# Altium integrated library Analog Devices Operational Amplifiers.IntLib: 2102 symbols (part 53 of 70)
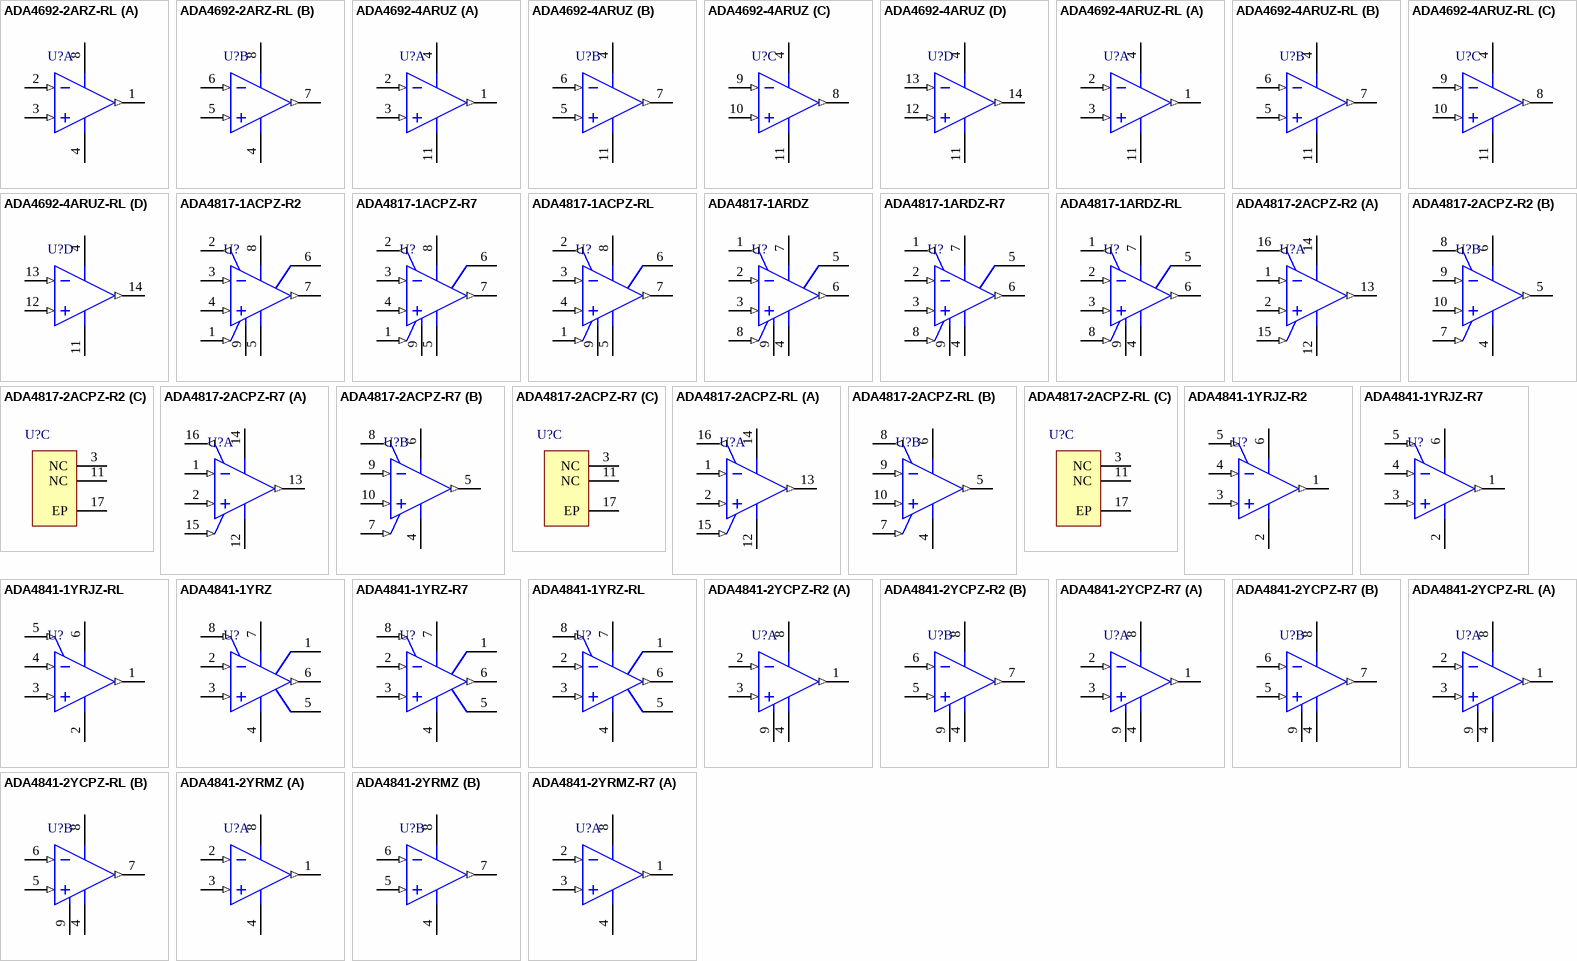
[diagram p166: symbols ADA4692-2ARZ-RL to ADA4841-2YRMZ-R7]

## ADA4841-2YCPZ-RL
designator U?
Double Channel Low Wide Band Noise Operational Amplifier, 80 MHz BW, 13 V/us SR, Industrial, 8-pin SON (CP-8-11), Reel; Generic Part Number: ADA4841-2; Manufacturer: Analog Devices; PartNumber: ADA4841-2YCPZ-RL; Amplifiers Per Package: 2; Input Bias Current: 3uA; Input Offset Voltage: 40uV; Iq/Amp: 1.5mA; Slew Rate: 13V/us; Small Signal Bandwidth: 80MHz; V Span Max: 12V; V Span Min: 2.7V; DatasheetVersion: Rev. E; PackageVersion: 01-24-2011-B; PackageReference: CP-8-11; PackageDescription: 8-Pin Lead Frame Chip Scale Package, Body 3 x 3 mm, Pitch 0.5 mm; Mounting Technology: Surface Mount; Code_JEDEC: MO-229-WEED; ComponentLink1Description: Manufacturer URL; ComponentLink1URL: http://www.analog.com/en/index.html; ComponentLink2Description: Datasheet; ComponentLink2URL: http://www.analog.com/static/imported-files/data_sheets/ADA4841-1_4841-2.pdf; ComponentLink3Description: Package Specification; ComponentLink3URL: http://www.analog.com/static/imported-files/packages/PKG_PDF/LFCSP(CP)/CP_8_11.pdf
footprint ADI-CP-8-11_N (SON, 8-Leads, Body 3x3mm, Pitch 0.5mm, Thermal Pad 2.34 x 1.60mm, IPC Medium Density)
footprint ADI-CP-8-11_L (SON, 8-Leads, Body 3x3mm, Pitch 0.5mm, Thermal Pad 2.34 x 1.60mm, IPC High Density)
footprint ADI-CP-8-11_M (SON, 8-Leads, Body 3x3mm, Pitch 0.5mm, Thermal Pad 2.34 x 1.60mm, IPC Low Density)
pins on every part: 4 -VS (power), 8 +VS (power), 9 EP (power)
part A pins: 1 OUT 1 (out), 2 -IN 1 (in), 3 +IN 1 (in)
part B pins: 5 +IN 2 (in), 6 -IN 2 (in), 7 OUT 2 (out)

## ADA4841-2YRMZ
designator U?
Double Channel Low Wide Band Noise Operational Amplifier, 80 MHz BW, 13 V/us SR, Industrial, 8-pin SOP (RM-8), Tube; Generic Part Number: ADA4841-2; Manufacturer: Analog Devices; PartNumber: ADA4841-2YRMZ; Amplifiers Per Package: 2; Input Bias Current: 3uA; Input Offset Voltage: 40uV; Iq/Amp: 1.5mA; Slew Rate: 13V/us; Small Signal Bandwidth: 80MHz; V Span Max: 12V; V Span Min: 2.7V; DatasheetVersion: Rev. E; PackageReference: RM-8; PackageDescription: 8-Pin Mini Small Outline Package, Body 3 x 3 mm, Pitch 0.65 mm; Supplier 1: Digi-Key; Supplier Part Number 1: ADA4841-2YRMZ-ND; Supplier 2: Farnell; Supplier Part Number 2: 1274194; Supplier 3: Newark; Supplier Part Number 3: 19M0647; Mounting Technology: Surface Mount; Code_JEDEC: MO-187-AA; ComponentLink1Description: Manufacturer URL; ComponentLink1URL: http://www.analog.com/en/index.html; ComponentLink2Description: Datasheet; ComponentLink2URL: http://www.analog.com/static/imported-files/data_sheets/ADA4841-1_4841-2.pdf; ComponentLink3Description: Package Specification; ComponentLink3URL: http://www.analog.com/static/imported-files/packages/PKG_PDF/MSOP%28RM%29/RM_8.pdf
footprint ADI-RM-8_N (SOP, 8-Leads, Body 3x3mm, Pitch 0.65mm, IPC Medium Density)
footprint ADI-RM-8_L (SOP, 8-Leads, Body 3x3mm, Pitch 0.65mm, IPC High Density)
footprint ADI-RM-8_M (SOP, 8-Leads, Body 3x3mm, Pitch 0.65mm, IPC Low Density)
pins on every part: 4 -VS (power), 8 +VS (power)
part A pins: 1 OUT 1 (out), 2 -IN 1 (in), 3 +IN 1 (in)
part B pins: 5 +IN 2 (in), 6 -IN 2 (in), 7 OUT 2 (out)

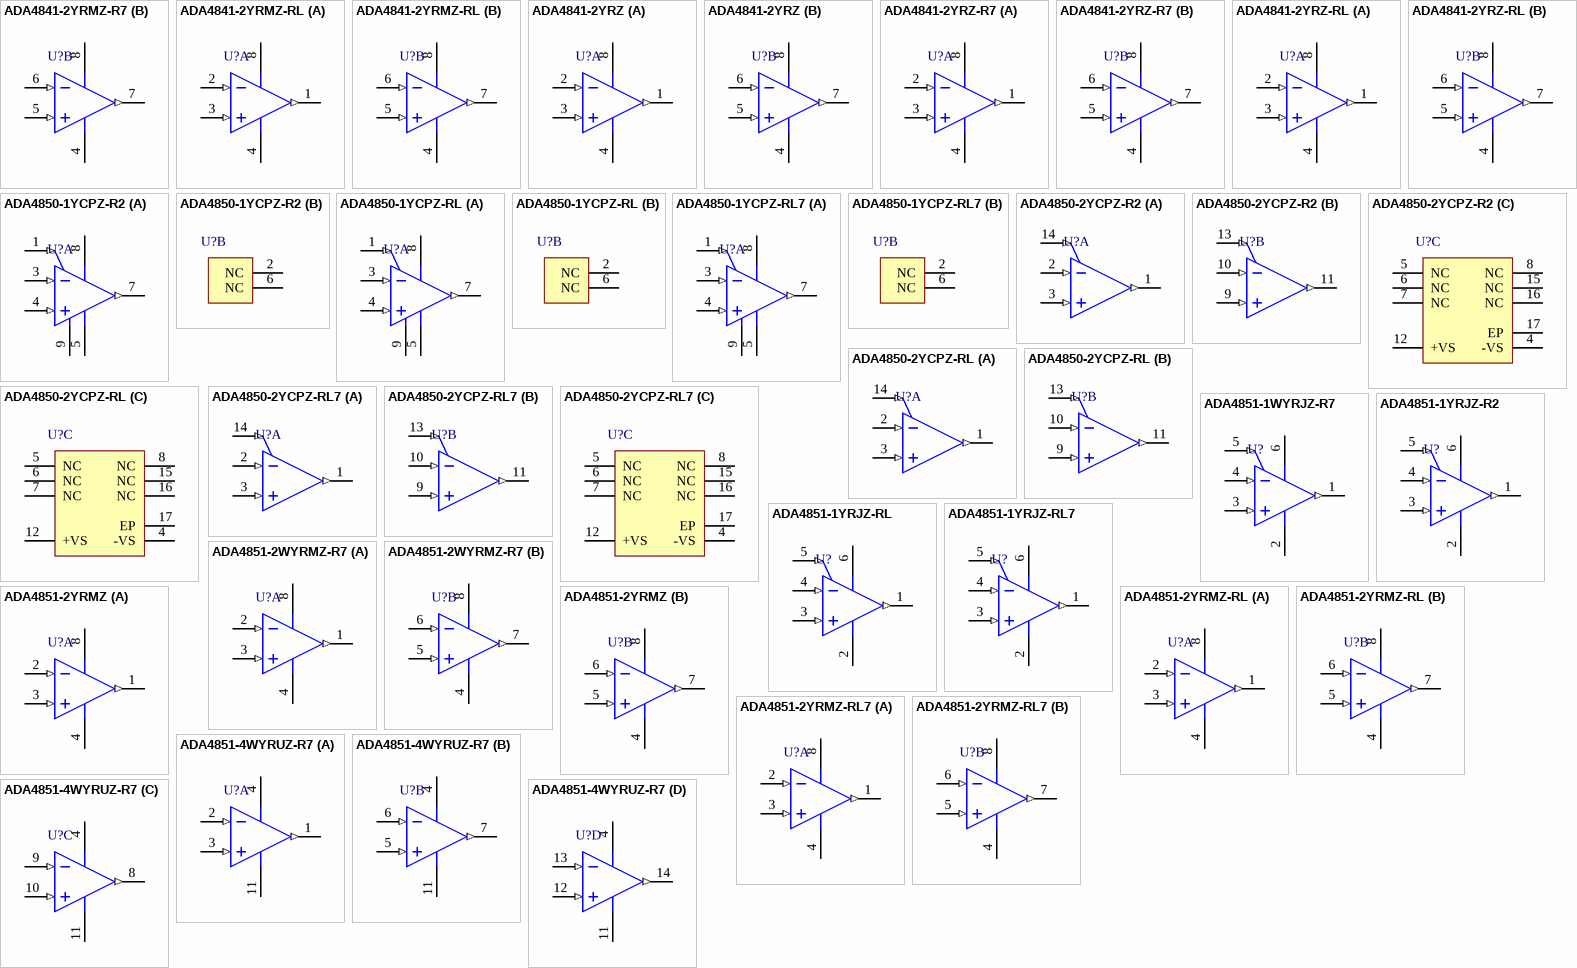
[diagram p83: symbols ADA4841-2YRMZ-R7 to ADA4851-4WYRUZ-R7]

## ADA4841-2YRMZ-R7
designator U?
Double Channel Low Wide Band Noise Operational Amplifier, 80 MHz BW, 13 V/us SR, Industrial, 8-pin SOP (RM-8), Reel; Generic Part Number: ADA4841-2; Manufacturer: Analog Devices; PartNumber: ADA4841-2YRMZ-R7; Amplifiers Per Package: 2; Input Bias Current: 3uA; Input Offset Voltage: 40uV; Iq/Amp: 1.5mA; Slew Rate: 13V/us; Small Signal Bandwidth: 80MHz; V Span Max: 12V; V Span Min: 2.7V; DatasheetVersion: Rev. E; PackageReference: RM-8; PackageDescription: 8-Pin Mini Small Outline Package, Body 3 x 3 mm, Pitch 0.65 mm; Supplier 1: Digi-Key; Supplier Part Number 1: ADA4841-2YRMZ-R7-ND; Supplier 2: Newark; Supplier Part Number 2: 12M7605; Mounting Technology: Surface Mount; Code_JEDEC: MO-187-AA; ComponentLink1Description: Manufacturer URL; ComponentLink1URL: http://www.analog.com/en/index.html; ComponentLink2Description: Datasheet; ComponentLink2URL: http://www.analog.com/static/imported-files/data_sheets/ADA4841-1_4841-2.pdf; ComponentLink3Description: Package Specification; ComponentLink3URL: http://www.analog.com/static/imported-files/packages/PKG_PDF/MSOP%28RM%29/RM_8.pdf
footprint ADI-RM-8_N (SOP, 8-Leads, Body 3x3mm, Pitch 0.65mm, IPC Medium Density)
footprint ADI-RM-8_L (SOP, 8-Leads, Body 3x3mm, Pitch 0.65mm, IPC High Density)
footprint ADI-RM-8_M (SOP, 8-Leads, Body 3x3mm, Pitch 0.65mm, IPC Low Density)
pins on every part: 4 -VS (power), 8 +VS (power)
part A pins: 1 OUT 1 (out), 2 -IN 1 (in), 3 +IN 1 (in)
part B pins: 5 +IN 2 (in), 6 -IN 2 (in), 7 OUT 2 (out)

## ADA4841-2YRMZ-RL
designator U?
Double Channel Low Wide Band Noise Operational Amplifier, 80 MHz BW, 13 V/us SR, Industrial, 8-pin SOP (RM-8), Reel; Generic Part Number: ADA4841-2; Manufacturer: Analog Devices; PartNumber: ADA4841-2YRMZ-RL; Amplifiers Per Package: 2; Input Bias Current: 3uA; Input Offset Voltage: 40uV; Iq/Amp: 1.5mA; Slew Rate: 13V/us; Small Signal Bandwidth: 80MHz; V Span Max: 12V; V Span Min: 2.7V; DatasheetVersion: Rev. E; PackageReference: RM-8; PackageDescription: 8-Pin Mini Small Outline Package, Body 3 x 3 mm, Pitch 0.65 mm; Supplier 1: Digi-Key; Supplier Part Number 1: ADA4841-2YRMZ-RL-ND; Supplier 2: Newark; Supplier Part Number 2: 12M7604; Mounting Technology: Surface Mount; Code_JEDEC: MO-187-AA; ComponentLink1Description: Manufacturer URL; ComponentLink1URL: http://www.analog.com/en/index.html; ComponentLink2Description: Datasheet; ComponentLink2URL: http://www.analog.com/static/imported-files/data_sheets/ADA4841-1_4841-2.pdf; ComponentLink3Description: Package Specification; ComponentLink3URL: http://www.analog.com/static/imported-files/packages/PKG_PDF/MSOP%28RM%29/RM_8.pdf
footprint ADI-RM-8_N (SOP, 8-Leads, Body 3x3mm, Pitch 0.65mm, IPC Medium Density)
footprint ADI-RM-8_L (SOP, 8-Leads, Body 3x3mm, Pitch 0.65mm, IPC High Density)
footprint ADI-RM-8_M (SOP, 8-Leads, Body 3x3mm, Pitch 0.65mm, IPC Low Density)
pins on every part: 4 -VS (power), 8 +VS (power)
part A pins: 1 OUT 1 (out), 2 -IN 1 (in), 3 +IN 1 (in)
part B pins: 5 +IN 2 (in), 6 -IN 2 (in), 7 OUT 2 (out)

## ADA4841-2YRZ
designator U?
Double Channel Low Wide Band Noise Operational Amplifier, 80 MHz BW, 13 V/us SR, Industrial, 8-pin SOIC (R-8), Tube; Generic Part Number: ADA4841-2; Manufacturer: Analog Devices; PartNumber: ADA4841-2YRZ; Amplifiers Per Package: 2; Input Bias Current: 3uA; Input Offset Voltage: 40uV; Iq/Amp: 1.5mA; Slew Rate: 13V/us; Small Signal Bandwidth: 80MHz; V Span Max: 12V; V Span Min: 2.7V; DatasheetVersion: Rev. E; PackageVersion: 060506-A; PackageReference: R-8; PackageDescription: 8-Pin Standard Small Outline Package, Body 3.9 x 4.9 mm, Pitch 1.27 mm; Supplier 1: Digi-Key; Supplier Part Number 1: ADA4841-2YRZ-ND; Supplier 2: Farnell; Supplier Part Number 2: 1274192; Supplier 3: Newark; Supplier Part Number 3: 19M0648; Mounting Technology: Surface Mount; Code_JEDEC: MS-012-AA; ComponentLink1Description: Manufacturer URL; ComponentLink1URL: http://www.analog.com/en/index.html; ComponentLink2Description: Datasheet; ComponentLink2URL: http://www.analog.com/static/imported-files/data_sheets/ADA4841-1_4841-2.pdf; ComponentLink3Description: Package Specification; ComponentLink3URL: http://www.analog.com/static/imported-files/packages/PKG_PDF/SOIC_Narrow%20(R)/R_8.pdf
footprint ADI-R-8_N (SOIC, 8-Leads, Body 4.9x3.9mm, Pitch 1.27mm, IPC Medium Density)
footprint ADI-R-8_L (SOIC, 8-Leads, Body 4.9x3.9mm, Pitch 1.27mm, IPC High Density)
footprint ADI-R-8_M (SOIC, 8-Leads, Body 4.9x3.9mm, Pitch 1.27mm, IPC Low Density)
pins on every part: 4 -VS (power), 8 +VS (power)
part A pins: 1 OUT 1 (out), 2 -IN 1 (in), 3 +IN 1 (in)
part B pins: 5 +IN 2 (in), 6 -IN 2 (in), 7 OUT 2 (out)

## ADA4841-2YRZ-R7
designator U?
Double Channel Low Wide Band Noise Operational Amplifier, 80 MHz BW, 13 V/us SR, Industrial, 8-pin SOIC (R-8), Reel; Generic Part Number: ADA4841-2; Manufacturer: Analog Devices; PartNumber: ADA4841-2YRZ-R7; Amplifiers Per Package: 2; Input Bias Current: 3uA; Input Offset Voltage: 40uV; Iq/Amp: 1.5mA; Slew Rate: 13V/us; Small Signal Bandwidth: 80MHz; V Span Max: 12V; V Span Min: 2.7V; DatasheetVersion: Rev. E; PackageVersion: 060506-A; PackageReference: R-8; PackageDescription: 8-Pin Standard Small Outline Package, Body 3.9 x 4.9 mm, Pitch 1.27 mm; Supplier 1: Digi-Key; Supplier Part Number 1: ADA4841-2YRZ-R7TR-ND; Supplier 2: Digi-Key; Supplier Part Number 2: ADA4841-2YRZ-R7CT-ND; Supplier 3: Digi-Key; Supplier Part Number 3: ADA4841-2YRZ-R7DKR-ND; Mounting Technology: Surface Mount; Code_JEDEC: MS-012-AA; ComponentLink1Description: Manufacturer URL; ComponentLink1URL: http://www.analog.com/en/index.html; ComponentLink2Description: Datasheet; ComponentLink2URL: http://www.analog.com/static/imported-files/data_sheets/ADA4841-1_4841-2.pdf; ComponentLink3Description: Package Specification; ComponentLink3URL: http://www.analog.com/static/imported-files/packages/PKG_PDF/SOIC_Narrow%20(R)/R_8.pdf
footprint ADI-R-8_N (SOIC, 8-Leads, Body 4.9x3.9mm, Pitch 1.27mm, IPC Medium Density)
footprint ADI-R-8_L (SOIC, 8-Leads, Body 4.9x3.9mm, Pitch 1.27mm, IPC High Density)
footprint ADI-R-8_M (SOIC, 8-Leads, Body 4.9x3.9mm, Pitch 1.27mm, IPC Low Density)
pins on every part: 4 -VS (power), 8 +VS (power)
part A pins: 1 OUT 1 (out), 2 -IN 1 (in), 3 +IN 1 (in)
part B pins: 5 +IN 2 (in), 6 -IN 2 (in), 7 OUT 2 (out)

## ADA4841-2YRZ-RL
designator U?
Double Channel Low Wide Band Noise Operational Amplifier, 80 MHz BW, 13 V/us SR, Industrial, 8-pin SOIC (R-8), Reel; Generic Part Number: ADA4841-2; Manufacturer: Analog Devices; PartNumber: ADA4841-2YRZ-RL; Amplifiers Per Package: 2; Input Bias Current: 3uA; Input Offset Voltage: 40uV; Iq/Amp: 1.5mA; Slew Rate: 13V/us; Small Signal Bandwidth: 80MHz; V Span Max: 12V; V Span Min: 2.7V; DatasheetVersion: Rev. E; PackageVersion: 060506-A; PackageReference: R-8; PackageDescription: 8-Pin Standard Small Outline Package, Body 3.9 x 4.9 mm, Pitch 1.27 mm; Supplier 1: Digi-Key; Supplier Part Number 1: ADA4841-2YRZ-RL-ND; Mounting Technology: Surface Mount; Code_JEDEC: MS-012-AA; ComponentLink1Description: Manufacturer URL; ComponentLink1URL: http://www.analog.com/en/index.html; ComponentLink2Description: Datasheet; ComponentLink2URL: http://www.analog.com/static/imported-files/data_sheets/ADA4841-1_4841-2.pdf; ComponentLink3Description: Package Specification; ComponentLink3URL: http://www.analog.com/static/imported-files/packages/PKG_PDF/SOIC_Narrow%20(R)/R_8.pdf
footprint ADI-R-8_N (SOIC, 8-Leads, Body 4.9x3.9mm, Pitch 1.27mm, IPC Medium Density)
footprint ADI-R-8_L (SOIC, 8-Leads, Body 4.9x3.9mm, Pitch 1.27mm, IPC High Density)
footprint ADI-R-8_M (SOIC, 8-Leads, Body 4.9x3.9mm, Pitch 1.27mm, IPC Low Density)
pins on every part: 4 -VS (power), 8 +VS (power)
part A pins: 1 OUT 1 (out), 2 -IN 1 (in), 3 +IN 1 (in)
part B pins: 5 +IN 2 (in), 6 -IN 2 (in), 7 OUT 2 (out)

## ADA4850-1YCPZ-R2
designator U?
Single Channel Ultra Low Power-Down Current Operational Amplifier, 175 MHz BW, 220 V/us SR, Industrial, 8-pin QFN (CP-8-2), Reel; Generic Part Number: ADA4850-1; Manufacturer: Analog Devices; PartNumber: ADA4850-1YCPZ-R2; Amplifiers Per Package: 1; Input Bias Current: 2.4uA; Input Offset Voltage: 600uV; Iq/Amp: 2.4mA; Small Signal Bandwidth: 175MHz; V Span Max: 6V; V Span Min: 2.7V; DatasheetVersion: Rev. C; PackageVersion: 061507-B; PackageReference: CP-8-2; PackageDescription: 8-Pin Lead Frame Chip Scale Package, Body 3 x 3 mm, Pitch 0.5 mm; Supplier 1: Digi-Key; Supplier Part Number 1: ADA4850-1YCPZ-R2CT-ND; Supplier 2: Digi-Key; Supplier Part Number 2: ADA4850-1YCPZ-R2DKR-ND; Slew Rate: 220V/us; Mounting Technology: Surface Mount; ComponentLink1Description: Manufacturer URL; ComponentLink1URL: http://www.analog.com/en/index.html; ComponentLink2Description: Datasheet; ComponentLink2URL: http://www.analog.com/static/imported-files/data_sheets/ADA4850-1_4850-2.pdf; ComponentLink3Description: Package Specification; ComponentLink3URL: http://www.analog.com/static/imported-files/packages/56953322593982CP_8_2.pdf
footprint ADI-CP-8-2_N (QFN, 8-Leads, Body 3x3mm, Pitch 0.5mm, Thermal Pad 1.45X1.74mm, IPC Medium Density)
footprint ADI-CP-8-2_L (QFN, 8-Leads, Body 3x3mm, Pitch 0.5mm, Thermal Pad 1.45X1.74mm, IPC High Density)
footprint ADI-CP-8-2_M (QFN, 8-Leads, Body 3x3mm, Pitch 0.5mm, Thermal Pad 1.45X1.74mm, IPC Low Density)
part A pins: 1 POWER DOWN (in), 3 -IN (in), 4 +IN (in), 5 -VS (power), 7 OUT (out), 8 +VS (power), 9 EP (power)
part B pins: 2 NC, 6 NC

## ADA4850-1YCPZ-RL
designator U?
Single Channel Ultra Low Power-Down Current Operational Amplifier, 175 MHz BW, 220 V/us SR, Industrial, 8-pin QFN (CP-8-2), Reel; Generic Part Number: ADA4850-1; Manufacturer: Analog Devices; PartNumber: ADA4850-1YCPZ-RL; Amplifiers Per Package: 1; Input Bias Current: 2.4uA; Input Offset Voltage: 600uV; Iq/Amp: 2.4mA; Small Signal Bandwidth: 175MHz; V Span Max: 6V; V Span Min: 2.7V; DatasheetVersion: Rev. C; PackageVersion: 061507-B; PackageReference: CP-8-2; PackageDescription: 8-Pin Lead Frame Chip Scale Package, Body 3 x 3 mm, Pitch 0.5 mm; Supplier 1: Digi-Key; Supplier Part Number 1: ADA4850-1YCPZ-RL-ND; Slew Rate: 220V/us; Mounting Technology: Surface Mount; ComponentLink1Description: Manufacturer URL; ComponentLink1URL: http://www.analog.com/en/index.html; ComponentLink2Description: Datasheet; ComponentLink2URL: http://www.analog.com/static/imported-files/data_sheets/ADA4850-1_4850-2.pdf; ComponentLink3Description: Package Specification; ComponentLink3URL: http://www.analog.com/static/imported-files/packages/56953322593982CP_8_2.pdf
footprint ADI-CP-8-2_N (QFN, 8-Leads, Body 3x3mm, Pitch 0.5mm, Thermal Pad 1.45X1.74mm, IPC Medium Density)
footprint ADI-CP-8-2_L (QFN, 8-Leads, Body 3x3mm, Pitch 0.5mm, Thermal Pad 1.45X1.74mm, IPC High Density)
footprint ADI-CP-8-2_M (QFN, 8-Leads, Body 3x3mm, Pitch 0.5mm, Thermal Pad 1.45X1.74mm, IPC Low Density)
part A pins: 1 POWER DOWN (in), 3 -IN (in), 4 +IN (in), 5 -VS (power), 7 OUT (out), 8 +VS (power), 9 EP (power)
part B pins: 2 NC, 6 NC

## ADA4850-1YCPZ-RL7
designator U?
Single Channel Ultra Low Power-Down Current Operational Amplifier, 175 MHz BW, 220 V/us SR, Industrial, 8-pin QFN (CP-8-2), Reel; Generic Part Number: ADA4850-1; Manufacturer: Analog Devices; PartNumber: ADA4850-1YCPZ-RL7; Amplifiers Per Package: 1; Input Bias Current: 2.4uA; Input Offset Voltage: 600uV; Iq/Amp: 2.4mA; Small Signal Bandwidth: 175MHz; V Span Max: 6V; V Span Min: 2.7V; DatasheetVersion: Rev. C; PackageVersion: 061507-B; PackageReference: CP-8-2; PackageDescription: 8-Pin Lead Frame Chip Scale Package, Body 3 x 3 mm, Pitch 0.5 mm; Supplier 1: Digi-Key; Supplier Part Number 1: ADA4850-1YCPZ-RL7-ND; Slew Rate: 220V/us; Mounting Technology: Surface Mount; ComponentLink1Description: Manufacturer URL; ComponentLink1URL: http://www.analog.com/en/index.html; ComponentLink2Description: Datasheet; ComponentLink2URL: http://www.analog.com/static/imported-files/data_sheets/ADA4850-1_4850-2.pdf; ComponentLink3Description: Package Specification; ComponentLink3URL: http://www.analog.com/static/imported-files/packages/56953322593982CP_8_2.pdf
footprint ADI-CP-8-2_N (QFN, 8-Leads, Body 3x3mm, Pitch 0.5mm, Thermal Pad 1.45X1.74mm, IPC Medium Density)
footprint ADI-CP-8-2_L (QFN, 8-Leads, Body 3x3mm, Pitch 0.5mm, Thermal Pad 1.45X1.74mm, IPC High Density)
footprint ADI-CP-8-2_M (QFN, 8-Leads, Body 3x3mm, Pitch 0.5mm, Thermal Pad 1.45X1.74mm, IPC Low Density)
part A pins: 1 POWER DOWN (in), 3 -IN (in), 4 +IN (in), 5 -VS (power), 7 OUT (out), 8 +VS (power), 9 EP (power)
part B pins: 2 NC, 6 NC

## ADA4850-2YCPZ-R2
designator U?
Double Channel Ultra Low Power-Down Current Operational Amplifier, 175 MHz BW, 220 V/us SR, Industrial, 16-pin QFN (CP-16-3), Reel; Generic Part Number: ADA4850-2; Manufacturer: Analog Devices; PartNumber: ADA4850-2YCPZ-R2; Amplifiers Per Package: 2; Input Bias Current: 2.4uA; Input Offset Voltage: 600uV; Iq/Amp: 2.4mA; Small Signal Bandwidth: 175MHz; V Span Max: 6V; V Span Min: 2.7V; DatasheetVersion: Rev. C; PackageReference: CP-16-3; PackageDescription: 16-Pin Lead Frame Chip Scale Package, Body 3 x 3 mm, Pitch 0.5 mm; Supplier 1: Digi-Key; Supplier Part Number 1: ADA4850-2YCPZ-R2CT-ND; Supplier 2: Digi-Key; Supplier Part Number 2: ADA4850-2YCPZ-R2DKR-ND; Supplier 3: Farnell; Supplier Part Number 3: 1078232; Supplier 4: Farnell; Supplier Part Number 4: 1078232RL; Slew Rate: 220V/us; Mounting Technology: Surface Mount; Code_JEDEC: MO-220-VEED-2; ComponentLink1Description: Manufacturer URL; ComponentLink1URL: http://www.analog.com/en/index.html; ComponentLink2Description: Datasheet; ComponentLink2URL: http://www.analog.com/static/imported-files/data_sheets/ADA4850-1_4850-2.pdf; ComponentLink3Description: Package Specification; ComponentLink3URL: http://www.analog.com/static/imported-files/packages/PKG_PDF/LFCSP(CP)/CP_16_3.pdf
footprint ADI-CP-16-3_N (QFN, 16-Leads, Body 3x3mm, Pitch 0.5mm, Thermal Pad 1.5x1.5mm, IPC Medium Density)
footprint ADI-CP-16-3_L (QFN, 16-Leads, Body 3x3mm, Pitch 0.5mm, Thermal Pad 1.5x1.5mm, IPC High Density)
footprint ADI-CP-16-3_M (QFN, 16-Leads, Body 3x3mm, Pitch 0.5mm, Thermal Pad 1.5x1.5mm, IPC Low Density)
part A pins: 1 VOUT 1 (out), 2 -IN 1 (in), 3 +IN 1 (in), 14 PD 1 (in)
part B pins: 9 +IN 2 (in), 10 -IN 2 (in), 11 VOUT 2 (out), 13 PD 2 (in)
part C pins: 4 -VS (power), 5 NC, 6 NC, 7 NC, 8 NC, 12 +VS (power), 15 NC, 16 NC, 17 EP (power)

## ADA4850-2YCPZ-RL
designator U?
Double Channel Ultra Low Power-Down Current Operational Amplifier, 175 MHz BW, 220 V/us SR, Industrial, 16-pin QFN (CP-16-3), Reel; Generic Part Number: ADA4850-2; Manufacturer: Analog Devices; PartNumber: ADA4850-2YCPZ-RL; Amplifiers Per Package: 2; Input Bias Current: 2.4uA; Input Offset Voltage: 600uV; Iq/Amp: 2.4mA; Small Signal Bandwidth: 175MHz; V Span Max: 6V; V Span Min: 2.7V; DatasheetVersion: Rev. C; PackageReference: CP-16-3; PackageDescription: 16-Pin Lead Frame Chip Scale Package, Body 3 x 3 mm, Pitch 0.5 mm; Supplier 1: Digi-Key; Supplier Part Number 1: ADA4850-2YCPZ-RL-ND; Slew Rate: 220V/us; Mounting Technology: Surface Mount; Code_JEDEC: MO-220-VEED-2; ComponentLink1Description: Manufacturer URL; ComponentLink1URL: http://www.analog.com/en/index.html; ComponentLink2Description: Datasheet; ComponentLink2URL: http://www.analog.com/static/imported-files/data_sheets/ADA4850-1_4850-2.pdf; ComponentLink3Description: Package Specification; ComponentLink3URL: http://www.analog.com/static/imported-files/packages/PKG_PDF/LFCSP(CP)/CP_16_3.pdf
footprint ADI-CP-16-3_N (QFN, 16-Leads, Body 3x3mm, Pitch 0.5mm, Thermal Pad 1.5x1.5mm, IPC Medium Density)
footprint ADI-CP-16-3_L (QFN, 16-Leads, Body 3x3mm, Pitch 0.5mm, Thermal Pad 1.5x1.5mm, IPC High Density)
footprint ADI-CP-16-3_M (QFN, 16-Leads, Body 3x3mm, Pitch 0.5mm, Thermal Pad 1.5x1.5mm, IPC Low Density)
part A pins: 1 VOUT 1 (out), 2 -IN 1 (in), 3 +IN 1 (in), 14 PD 1 (in)
part B pins: 9 +IN 2 (in), 10 -IN 2 (in), 11 VOUT 2 (out), 13 PD 2 (in)
part C pins: 4 -VS (power), 5 NC, 6 NC, 7 NC, 8 NC, 12 +VS (power), 15 NC, 16 NC, 17 EP (power)

## ADA4850-2YCPZ-RL7
designator U?
Double Channel Ultra Low Power-Down Current Operational Amplifier, 175 MHz BW, 220 V/us SR, Industrial, 16-pin QFN (CP-16-3), Reel; Generic Part Number: ADA4850-2; Manufacturer: Analog Devices; PartNumber: ADA4850-2YCPZ-RL7; Amplifiers Per Package: 2; Input Bias Current: 2.4uA; Input Offset Voltage: 600uV; Iq/Amp: 2.4mA; Small Signal Bandwidth: 175MHz; V Span Max: 6V; V Span Min: 2.7V; DatasheetVersion: Rev. C; PackageReference: CP-16-3; PackageDescription: 16-Pin Lead Frame Chip Scale Package, Body 3 x 3 mm, Pitch 0.5 mm; Supplier 1: Digi-Key; Supplier Part Number 1: ADA4850-2YCPZ-RL7-ND; Slew Rate: 220V/us; Mounting Technology: Surface Mount; Code_JEDEC: MO-220-VEED-2; ComponentLink1Description: Manufacturer URL; ComponentLink1URL: http://www.analog.com/en/index.html; ComponentLink2Description: Datasheet; ComponentLink2URL: http://www.analog.com/static/imported-files/data_sheets/ADA4850-1_4850-2.pdf; ComponentLink3Description: Package Specification; ComponentLink3URL: http://www.analog.com/static/imported-files/packages/PKG_PDF/LFCSP(CP)/CP_16_3.pdf
footprint ADI-CP-16-3_N (QFN, 16-Leads, Body 3x3mm, Pitch 0.5mm, Thermal Pad 1.5x1.5mm, IPC Medium Density)
footprint ADI-CP-16-3_L (QFN, 16-Leads, Body 3x3mm, Pitch 0.5mm, Thermal Pad 1.5x1.5mm, IPC High Density)
footprint ADI-CP-16-3_M (QFN, 16-Leads, Body 3x3mm, Pitch 0.5mm, Thermal Pad 1.5x1.5mm, IPC Low Density)
part A pins: 1 VOUT 1 (out), 2 -IN 1 (in), 3 +IN 1 (in), 14 PD 1 (in)
part B pins: 9 +IN 2 (in), 10 -IN 2 (in), 11 VOUT 2 (out), 13 PD 2 (in)
part C pins: 4 -VS (power), 5 NC, 6 NC, 7 NC, 8 NC, 12 +VS (power), 15 NC, 16 NC, 17 EP (power)

## ADA4851-1WYRJZ-R7
designator U?
Single Channel Low Power Operational Amplifier, 130 MHz BW, 375 V/us SR, Industrial, 6-pin SOT23 (RJ-6), Reel; Generic Part Number: ADA4851-1; Manufacturer: Analog Devices; PartNumber: ADA4851-1WYRJZ-R7; Amplifiers Per Package: 1; Automotive Qualified: Yes; Input Bias Current: 2.2uA; Input Offset Voltage: 600uV; Iq/Amp: 3.2mA; Small Signal Bandwidth: 130MHz; V Span Max: 12V; V Span Min: 2.7V; DatasheetVersion: Rev. J; PackageVersion: 121608-A; PackageReference: RJ-6; PackageDescription: 6-Pin Small Outline Transistor Package, Body 2.9 x 1.6 mm, Pitch 0.95 mm; Supplier 1: Digi-Key; Supplier Part Number 1: ADA4851-1WYRJZ-R7TR-ND; Supplier 2: Digi-Key; Supplier Part Number 2: ADA4851-1WYRJZ-R7CT-ND; Supplier 3: Digi-Key; Supplier Part Number 3: ADA4851-1WYRJZ-R7DKR-ND; Supplier 4: Newark; Supplier Part Number 4: 91R2556; Slew Rate: 375V/us; Mounting Technology: Surface Mount; Code_JEDEC: MO-178-AB; ComponentLink1Description: Manufacturer URL; ComponentLink1URL: http://www.analog.com/en/index.html; ComponentLink2Description: Datasheet; ComponentLink2URL: http://www.analog.com/static/imported-files/data_sheets/ADA4851-1_4851-2_4851-4.pdf; ComponentLink3Description: Package Specification; ComponentLink3URL: http://www.analog.com/static/imported-files/packages/PKG_PDF/SOT-23(RJ)/RJ_6.pdf; ComponentLink4Description: Reference Circuit; ComponentLink4URL: http://www.analog.com/en/all-operational-amplifiers-op-amps/operational-amplifiers-op-amps/ada4851-1/products/product.html#product-recommendations
footprint ADI-RJ-6_N (SOT23, 6-Leads, Body 2.9x1.6mm, Pitch 0.95mm, IPC Medium Density)
footprint ADI-RJ-6_L (SOT23, 6-Leads, Body 2.9x1.6mm, Pitch 0.95mm, IPC High Density)
footprint ADI-RJ-6_M (SOT23, 6-Leads, Body 2.9x1.6mm, Pitch 0.95mm, IPC Low Density)
pins: 1 VOUT (out), 2 -VS (power), 3 +IN (in), 4 -IN (in), 5 ~{POWER DOWN} (in), 6 +VS (power)

## ADA4851-1YRJZ-R2
designator U?
Single Channel Low Power Operational Amplifier, 130 MHz BW, 375 V/us SR, Industrial, 6-pin SOT23 (RJ-6), Reel; Generic Part Number: ADA4851-1; Manufacturer: Analog Devices; PartNumber: ADA4851-1YRJZ-R2; Amplifiers Per Package: 1; Automotive Qualified: Yes; Input Bias Current: 2.2uA; Input Offset Voltage: 600uV; Iq/Amp: 3.2mA; Small Signal Bandwidth: 130MHz; V Span Max: 12V; V Span Min: 2.7V; DatasheetVersion: Rev. J; PackageVersion: 121608-A; PackageReference: RJ-6; PackageDescription: 6-Pin Small Outline Transistor Package, Body 2.9 x 1.6 mm, Pitch 0.95 mm; Supplier 1: Digi-Key; Supplier Part Number 1: ADA4851-1YRJZ-R2CT-ND; Supplier 2: Digi-Key; Supplier Part Number 2: ADA4851-1YRJZ-R2DKR-ND; Supplier 3: Farnell; Supplier Part Number 3: 1078231; Supplier 4: Farnell; Supplier Part Number 4: 1078231RL; Supplier 5: Newark; Supplier Part Number 5: 19M8631; Slew Rate: 375V/us; Mounting Technology: Surface Mount; Code_JEDEC: MO-178-AB; ComponentLink1Description: Manufacturer URL; ComponentLink1URL: http://www.analog.com/en/index.html; ComponentLink2Description: Datasheet; ComponentLink2URL: http://www.analog.com/static/imported-files/data_sheets/ADA4851-1_4851-2_4851-4.pdf; ComponentLink3Description: Package Specification; ComponentLink3URL: http://www.analog.com/static/imported-files/packages/PKG_PDF/SOT-23(RJ)/RJ_6.pdf; ComponentLink4Description: Reference Circuit; ComponentLink4URL: http://www.analog.com/en/all-operational-amplifiers-op-amps/operational-amplifiers-op-amps/ada4851-1/products/product.html#product-recommendations
footprint ADI-RJ-6_N (SOT23, 6-Leads, Body 2.9x1.6mm, Pitch 0.95mm, IPC Medium Density)
footprint ADI-RJ-6_L (SOT23, 6-Leads, Body 2.9x1.6mm, Pitch 0.95mm, IPC High Density)
footprint ADI-RJ-6_M (SOT23, 6-Leads, Body 2.9x1.6mm, Pitch 0.95mm, IPC Low Density)
pins: 1 VOUT (out), 2 -VS (power), 3 +IN (in), 4 -IN (in), 5 ~{POWER DOWN} (in), 6 +VS (power)

## ADA4851-1YRJZ-RL
designator U?
Single Channel Low Power Operational Amplifier, 130 MHz BW, 375 V/us SR, Industrial, 6-pin SOT23 (RJ-6), Reel; Generic Part Number: ADA4851-1; Manufacturer: Analog Devices; PartNumber: ADA4851-1YRJZ-RL; Amplifiers Per Package: 1; Automotive Qualified: Yes; Input Bias Current: 2.2uA; Input Offset Voltage: 600uV; Iq/Amp: 3.2mA; Small Signal Bandwidth: 130MHz; V Span Max: 12V; V Span Min: 2.7V; DatasheetVersion: Rev. J; PackageVersion: 121608-A; PackageReference: RJ-6; PackageDescription: 6-Pin Small Outline Transistor Package, Body 2.9 x 1.6 mm, Pitch 0.95 mm; Supplier 1: Digi-Key; Supplier Part Number 1: ADA4851-1YRJZ-RL-ND; Supplier 2: Newark; Supplier Part Number 2: 59K0903; Slew Rate: 375V/us; Mounting Technology: Surface Mount; Code_JEDEC: MO-178-AB; ComponentLink1Description: Manufacturer URL; ComponentLink1URL: http://www.analog.com/en/index.html; ComponentLink2Description: Datasheet; ComponentLink2URL: http://www.analog.com/static/imported-files/data_sheets/ADA4851-1_4851-2_4851-4.pdf; ComponentLink3Description: Package Specification; ComponentLink3URL: http://www.analog.com/static/imported-files/packages/PKG_PDF/SOT-23(RJ)/RJ_6.pdf; ComponentLink4Description: Reference Circuit; ComponentLink4URL: http://www.analog.com/en/all-operational-amplifiers-op-amps/operational-amplifiers-op-amps/ada4851-1/products/product.html#product-recommendations
footprint ADI-RJ-6_N (SOT23, 6-Leads, Body 2.9x1.6mm, Pitch 0.95mm, IPC Medium Density)
footprint ADI-RJ-6_L (SOT23, 6-Leads, Body 2.9x1.6mm, Pitch 0.95mm, IPC High Density)
footprint ADI-RJ-6_M (SOT23, 6-Leads, Body 2.9x1.6mm, Pitch 0.95mm, IPC Low Density)
pins: 1 VOUT (out), 2 -VS (power), 3 +IN (in), 4 -IN (in), 5 ~{POWER DOWN} (in), 6 +VS (power)

## ADA4851-1YRJZ-RL7
designator U?
Single Channel Low Power Operational Amplifier, 130 MHz BW, 375 V/us SR, Industrial, 6-pin SOT23 (RJ-6), Reel; Generic Part Number: ADA4851-1; Manufacturer: Analog Devices; PartNumber: ADA4851-1YRJZ-RL7; Amplifiers Per Package: 1; Automotive Qualified: Yes; Input Bias Current: 2.2uA; Input Offset Voltage: 600uV; Iq/Amp: 3.2mA; Small Signal Bandwidth: 130MHz; V Span Max: 12V; V Span Min: 2.7V; DatasheetVersion: Rev. J; PackageVersion: 121608-A; PackageReference: RJ-6; PackageDescription: 6-Pin Small Outline Transistor Package, Body 2.9 x 1.6 mm, Pitch 0.95 mm; Supplier 1: Digi-Key; Supplier Part Number 1: ADA4851-1YRJZ-RL7-ND; Supplier 2: Newark; Supplier Part Number 2: 59K0904; Slew Rate: 375V/us; Mounting Technology: Surface Mount; Code_JEDEC: MO-178-AB; ComponentLink1Description: Manufacturer URL; ComponentLink1URL: http://www.analog.com/en/index.html; ComponentLink2Description: Datasheet; ComponentLink2URL: http://www.analog.com/static/imported-files/data_sheets/ADA4851-1_4851-2_4851-4.pdf; ComponentLink3Description: Package Specification; ComponentLink3URL: http://www.analog.com/static/imported-files/packages/PKG_PDF/SOT-23(RJ)/RJ_6.pdf; ComponentLink4Description: Reference Circuit; ComponentLink4URL: http://www.analog.com/en/all-operational-amplifiers-op-amps/operational-amplifiers-op-amps/ada4851-1/products/product.html#product-recommendations
footprint ADI-RJ-6_N (SOT23, 6-Leads, Body 2.9x1.6mm, Pitch 0.95mm, IPC Medium Density)
footprint ADI-RJ-6_L (SOT23, 6-Leads, Body 2.9x1.6mm, Pitch 0.95mm, IPC High Density)
footprint ADI-RJ-6_M (SOT23, 6-Leads, Body 2.9x1.6mm, Pitch 0.95mm, IPC Low Density)
pins: 1 VOUT (out), 2 -VS (power), 3 +IN (in), 4 -IN (in), 5 ~{POWER DOWN} (in), 6 +VS (power)

## ADA4851-2WYRMZ-R7
designator U?
Double Channel Low Power Operational Amplifier, 130 MHz BW, 375 V/us SR, Industrial, 8-pin SOP (RM-8), Reel; Generic Part Number: ADA4851-2; Manufacturer: Analog Devices; PartNumber: ADA4851-2WYRMZ-R7; Amplifiers Per Package: 2; Automotive Qualified: Yes; Input Bias Current: 2.2uA; Input Offset Voltage: 600uV; Iq/Amp: 3.2mA; Small Signal Bandwidth: 130MHz; V Span Max: 12V; V Span Min: 2.7V; DatasheetVersion: Rev. J; PackageReference: RM-8; PackageDescription: 8-Pin Mini Small Outline Package, Body 3 x 3 mm, Pitch 0.65 mm; Supplier 1: Digi-Key; Supplier Part Number 1: ADA4851-2WYRMZ-R7TR-ND; Supplier 2: Digi-Key; Supplier Part Number 2: ADA4851-2WYRMZ-R7CT-ND; Supplier 3: Digi-Key; Supplier Part Number 3: ADA4851-2WYRMZ-R7DKR-ND; Supplier 4: Newark; Supplier Part Number 4: 14R8664; Slew Rate: 375V/us; Mounting Technology: Surface Mount; Code_JEDEC: MO-187-AA; ComponentLink1Description: Manufacturer URL; ComponentLink1URL: http://www.analog.com/en/index.html; ComponentLink2Description: Datasheet; ComponentLink2URL: http://www.analog.com/static/imported-files/data_sheets/ADA4851-1_4851-2_4851-4.pdf; ComponentLink3Description: Package Specification; ComponentLink3URL: http://www.analog.com/static/imported-files/packages/PKG_PDF/MSOP%28RM%29/RM_8.pdf
footprint ADI-RM-8_N (SOP, 8-Leads, Body 3x3mm, Pitch 0.65mm, IPC Medium Density)
footprint ADI-RM-8_L (SOP, 8-Leads, Body 3x3mm, Pitch 0.65mm, IPC High Density)
footprint ADI-RM-8_M (SOP, 8-Leads, Body 3x3mm, Pitch 0.65mm, IPC Low Density)
pins on every part: 4 -VS (power), 8 +VS (power)
part A pins: 1 OUT 1 (out), 2 -IN 1 (in), 3 +IN 1 (in)
part B pins: 5 +IN 2 (in), 6 -IN 2 (in), 7 OUT 2 (out)

## ADA4851-2YRMZ
designator U?
Double Channel Low Power Operational Amplifier, 130 MHz BW, 375 V/us SR, Industrial, 8-pin SOP (RM-8), Tube; Generic Part Number: ADA4851-2; Manufacturer: Analog Devices; PartNumber: ADA4851-2YRMZ; Amplifiers Per Package: 2; Automotive Qualified: Yes; Input Bias Current: 2.2uA; Input Offset Voltage: 600uV; Iq/Amp: 3.2mA; Small Signal Bandwidth: 130MHz; V Span Max: 12V; V Span Min: 2.7V; DatasheetVersion: Rev. J; PackageReference: RM-8; PackageDescription: 8-Pin Mini Small Outline Package, Body 3 x 3 mm, Pitch 0.65 mm; Supplier 1: Digi-Key; Supplier Part Number 1: ADA4851-2YRMZ-ND; Supplier 2: Farnell; Supplier Part Number 2: 1333267; Supplier 3: Newark; Supplier Part Number 3: 15P0325; Supplier 4: Newark; Supplier Part Number 4: 59K0906; Slew Rate: 375V/us; Mounting Technology: Surface Mount; Code_JEDEC: MO-187-AA; ComponentLink1Description: Manufacturer URL; ComponentLink1URL: http://www.analog.com/en/index.html; ComponentLink2Description: Datasheet; ComponentLink2URL: http://www.analog.com/static/imported-files/data_sheets/ADA4851-1_4851-2_4851-4.pdf; ComponentLink3Description: Package Specification; ComponentLink3URL: http://www.analog.com/static/imported-files/packages/PKG_PDF/MSOP%28RM%29/RM_8.pdf
footprint ADI-RM-8_N (SOP, 8-Leads, Body 3x3mm, Pitch 0.65mm, IPC Medium Density)
footprint ADI-RM-8_L (SOP, 8-Leads, Body 3x3mm, Pitch 0.65mm, IPC High Density)
footprint ADI-RM-8_M (SOP, 8-Leads, Body 3x3mm, Pitch 0.65mm, IPC Low Density)
pins on every part: 4 -VS (power), 8 +VS (power)
part A pins: 1 OUT 1 (out), 2 -IN 1 (in), 3 +IN 1 (in)
part B pins: 5 +IN 2 (in), 6 -IN 2 (in), 7 OUT 2 (out)

## ADA4851-2YRMZ-RL
designator U?
Double Channel Low Power Operational Amplifier, 130 MHz BW, 375 V/us SR, Industrial, 8-pin SOP (RM-8), Reel; Generic Part Number: ADA4851-2; Manufacturer: Analog Devices; PartNumber: ADA4851-2YRMZ-RL; Amplifiers Per Package: 2; Automotive Qualified: Yes; Input Bias Current: 2.2uA; Input Offset Voltage: 600uV; Iq/Amp: 3.2mA; Small Signal Bandwidth: 130MHz; V Span Max: 12V; V Span Min: 2.7V; DatasheetVersion: Rev. J; PackageReference: RM-8; PackageDescription: 8-Pin Mini Small Outline Package, Body 3 x 3 mm, Pitch 0.65 mm; Supplier 1: Digi-Key; Supplier Part Number 1: ADA4851-2YRMZ-RL-ND; Slew Rate: 375V/us; Mounting Technology: Surface Mount; Code_JEDEC: MO-187-AA; ComponentLink1Description: Manufacturer URL; ComponentLink1URL: http://www.analog.com/en/index.html; ComponentLink2Description: Datasheet; ComponentLink2URL: http://www.analog.com/static/imported-files/data_sheets/ADA4851-1_4851-2_4851-4.pdf; ComponentLink3Description: Package Specification; ComponentLink3URL: http://www.analog.com/static/imported-files/packages/PKG_PDF/MSOP%28RM%29/RM_8.pdf
footprint ADI-RM-8_N (SOP, 8-Leads, Body 3x3mm, Pitch 0.65mm, IPC Medium Density)
footprint ADI-RM-8_L (SOP, 8-Leads, Body 3x3mm, Pitch 0.65mm, IPC High Density)
footprint ADI-RM-8_M (SOP, 8-Leads, Body 3x3mm, Pitch 0.65mm, IPC Low Density)
pins on every part: 4 -VS (power), 8 +VS (power)
part A pins: 1 OUT 1 (out), 2 -IN 1 (in), 3 +IN 1 (in)
part B pins: 5 +IN 2 (in), 6 -IN 2 (in), 7 OUT 2 (out)

## ADA4851-2YRMZ-RL7
designator U?
Double Channel Low Power Operational Amplifier, 130 MHz BW, 375 V/us SR, Industrial, 8-pin SOP (RM-8), Reel; Generic Part Number: ADA4851-2; Manufacturer: Analog Devices; PartNumber: ADA4851-2YRMZ-RL7; Amplifiers Per Package: 2; Automotive Qualified: Yes; Input Bias Current: 2.2uA; Input Offset Voltage: 600uV; Iq/Amp: 3.2mA; Small Signal Bandwidth: 130MHz; V Span Max: 12V; V Span Min: 2.7V; DatasheetVersion: Rev. J; PackageReference: RM-8; PackageDescription: 8-Pin Mini Small Outline Package, Body 3 x 3 mm, Pitch 0.65 mm; Supplier 1: Digi-Key; Supplier Part Number 1: ADA4851-2YRMZ-RL7-ND; Supplier 2: Newark; Supplier Part Number 2: 59K0908; Slew Rate: 375V/us; Mounting Technology: Surface Mount; Code_JEDEC: MO-187-AA; ComponentLink1Description: Manufacturer URL; ComponentLink1URL: http://www.analog.com/en/index.html; ComponentLink2Description: Datasheet; ComponentLink2URL: http://www.analog.com/static/imported-files/data_sheets/ADA4851-1_4851-2_4851-4.pdf; ComponentLink3Description: Package Specification; ComponentLink3URL: http://www.analog.com/static/imported-files/packages/PKG_PDF/MSOP%28RM%29/RM_8.pdf
footprint ADI-RM-8_N (SOP, 8-Leads, Body 3x3mm, Pitch 0.65mm, IPC Medium Density)
footprint ADI-RM-8_L (SOP, 8-Leads, Body 3x3mm, Pitch 0.65mm, IPC High Density)
footprint ADI-RM-8_M (SOP, 8-Leads, Body 3x3mm, Pitch 0.65mm, IPC Low Density)
pins on every part: 4 -VS (power), 8 +VS (power)
part A pins: 1 OUT 1 (out), 2 -IN 1 (in), 3 +IN 1 (in)
part B pins: 5 +IN 2 (in), 6 -IN 2 (in), 7 OUT 2 (out)

## ADA4851-4WYRUZ-R7
designator U?
Quad Channel Low Power Operational Amplifier, 130 MHz BW, 375 V/us SR, Industrial, 14-pin SOP (RU-14), Reel; Generic Part Number: ADA4851-4; Manufacturer: Analog Devices; PartNumber: ADA4851-4WYRUZ-R7; Amplifiers Per Package: 4; Automotive Qualified: Yes; Input Bias Current: 1.8uA; Input Offset Voltage: 600uV; Iq/Amp: 3.2mA; Small Signal Bandwidth: 130MHz; V Span Max: 12V; V Span Min: 2.7V; DatasheetVersion: Rev. J; PackageReference: RU-14; PackageDescription: 14-Pin Thin Shrink Small Outline Package, Body 5 x 4.4 mm, Pitch 0.65 mm; Supplier 1: Digi-Key; Supplier Part Number 1: ADA4851-4WYRUZ-R7TR-ND; Supplier 2: Digi-Key; Supplier Part Number 2: ADA4851-4WYRUZ-R7CT-ND; Supplier 3: Digi-Key; Supplier Part Number 3: ADA4851-4WYRUZ-R7DKR-ND; Supplier 4: Newark; Supplier Part Number 4: 14R8665; Slew Rate: 375V/us; Mounting Technology: Surface Mount; Code_JEDEC: MO-153AB-1; ComponentLink1Description: Manufacturer URL; ComponentLink1URL: http://www.analog.com/en/index.html; ComponentLink2Description: Datasheet; ComponentLink2URL: http://www.analog.com/static/imported-files/data_sheets/ADA4851-1_4851-2_4851-4.pdf; ComponentLink3Description: Package Specification; ComponentLink3URL: http://www.analog.com/static/imported-files/packages/36057385283879153717235186773RU14.pdf
footprint ADI-RU-14_N (SOP, 14-Leads, Body 5x4.4mm, Pitch 0.65mm, IPC Medium Density)
footprint ADI-RU-14_L (SOP, 14-Leads, Body 5x4.4mm, Pitch 0.65mm, IPC High Density)
footprint ADI-RU-14_M (SOP, 14-Leads, Body 5x4.4mm, Pitch 0.65mm, IPC Low Density)
pins on every part: 4 +VS (power), 11 -VS (power)
part A pins: 1 VOUT 1 (out), 2 -IN 1 (in), 3 +IN 1 (in)
part B pins: 5 +IN 2 (in), 6 -IN 2 (in), 7 VOUT 2 (out)
part C pins: 8 VOUT 3 (out), 9 -IN 3 (in), 10 +IN 3 (in)
part D pins: 12 +IN 4 (in), 13 -IN 4 (in), 14 VOUT 4 (out)

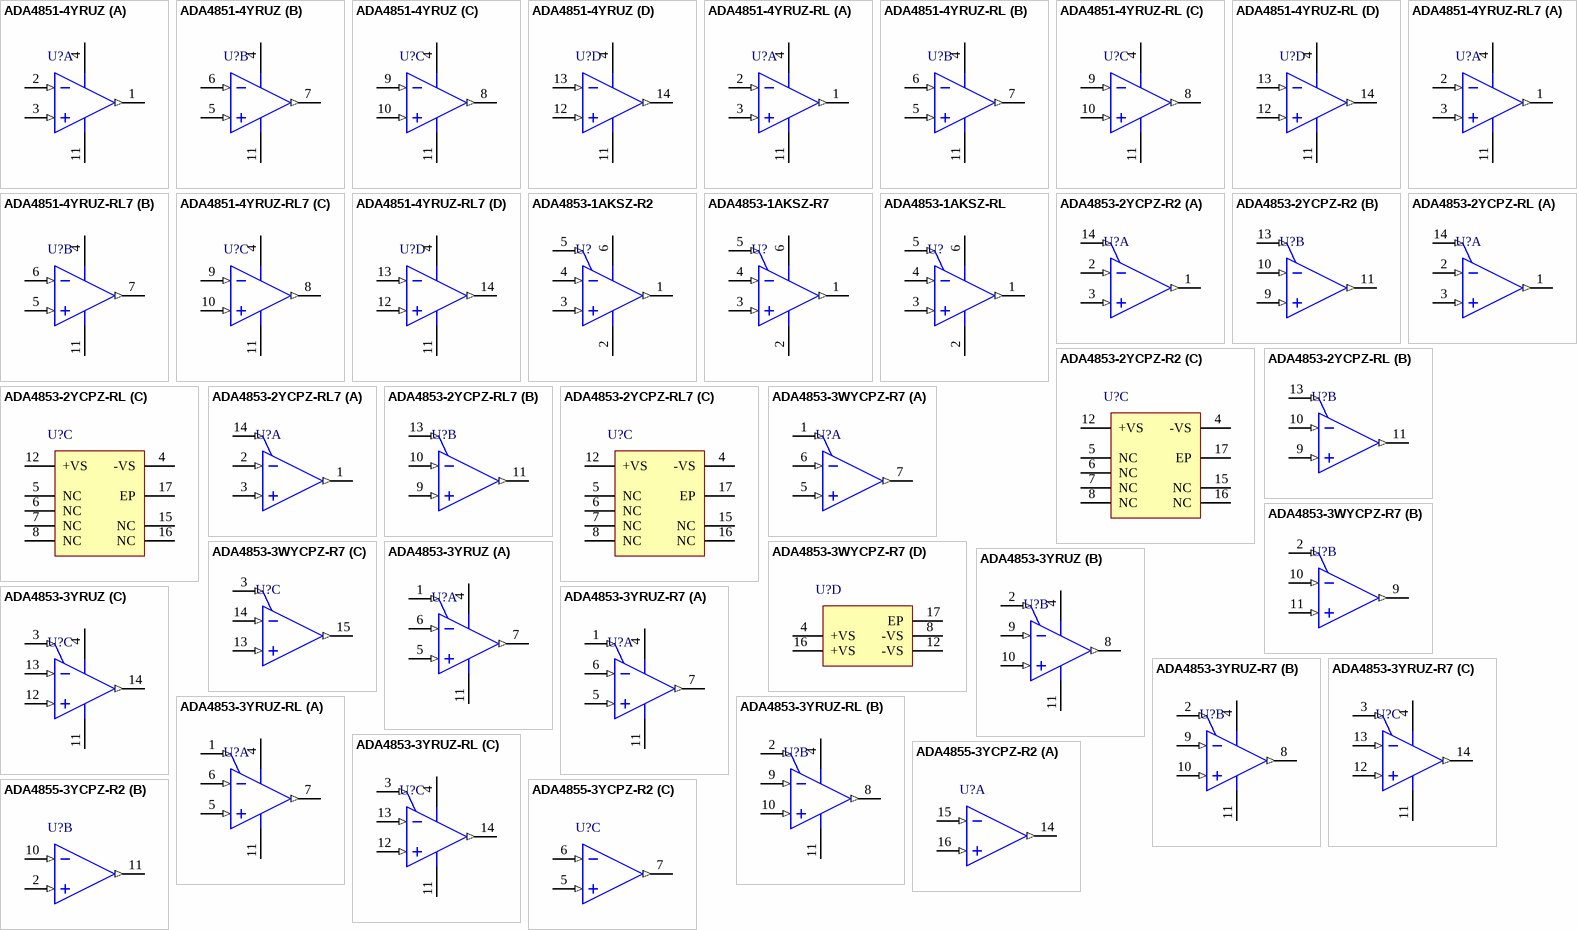
[diagram p84: symbols ADA4851-4YRUZ to ADA4855-3YCPZ-R2]

## ADA4851-4YRUZ
designator U?
Quad Channel Low Power Operational Amplifier, 130 MHz BW, 375 V/us SR, Industrial, 14-pin SOP (RU-14), Tube; Generic Part Number: ADA4851-4; Manufacturer: Analog Devices; PartNumber: ADA4851-4YRUZ; Amplifiers Per Package: 4; Automotive Qualified: Yes; Input Bias Current: 1.8uA; Input Offset Voltage: 600uV; Iq/Amp: 3.2mA; Small Signal Bandwidth: 130MHz; V Span Max: 12V; V Span Min: 2.7V; DatasheetVersion: Rev. J; PackageReference: RU-14; PackageDescription: 14-Pin Thin Shrink Small Outline Package, Body 5 x 4.4 mm, Pitch 0.65 mm; Supplier 1: Digi-Key; Supplier Part Number 1: ADA4851-4YRUZ-ND; Supplier 2: Farnell; Supplier Part Number 2: 1078230; Supplier 3: Newark; Supplier Part Number 3: 19M0649; Slew Rate: 375V/us; Mounting Technology: Surface Mount; Code_JEDEC: MO-153AB-1; ComponentLink1Description: Manufacturer URL; ComponentLink1URL: http://www.analog.com/en/index.html; ComponentLink2Description: Datasheet; ComponentLink2URL: http://www.analog.com/static/imported-files/data_sheets/ADA4851-1_4851-2_4851-4.pdf; ComponentLink3Description: Package Specification; ComponentLink3URL: http://www.analog.com/static/imported-files/packages/36057385283879153717235186773RU14.pdf
footprint ADI-RU-14_N (SOP, 14-Leads, Body 5x4.4mm, Pitch 0.65mm, IPC Medium Density)
footprint ADI-RU-14_L (SOP, 14-Leads, Body 5x4.4mm, Pitch 0.65mm, IPC High Density)
footprint ADI-RU-14_M (SOP, 14-Leads, Body 5x4.4mm, Pitch 0.65mm, IPC Low Density)
pins on every part: 4 +VS (power), 11 -VS (power)
part A pins: 1 VOUT 1 (out), 2 -IN 1 (in), 3 +IN 1 (in)
part B pins: 5 +IN 2 (in), 6 -IN 2 (in), 7 VOUT 2 (out)
part C pins: 8 VOUT 3 (out), 9 -IN 3 (in), 10 +IN 3 (in)
part D pins: 12 +IN 4 (in), 13 -IN 4 (in), 14 VOUT 4 (out)

## ADA4851-4YRUZ-RL
designator U?
Quad Channel Low Power Operational Amplifier, 130 MHz BW, 375 V/us SR, Industrial, 14-pin SOP (RU-14), Reel; Generic Part Number: ADA4851-4; Manufacturer: Analog Devices; PartNumber: ADA4851-4YRUZ-RL; Amplifiers Per Package: 4; Automotive Qualified: Yes; Input Bias Current: 1.8uA; Input Offset Voltage: 600uV; Iq/Amp: 3.2mA; Small Signal Bandwidth: 130MHz; V Span Max: 12V; V Span Min: 2.7V; DatasheetVersion: Rev. J; PackageReference: RU-14; PackageDescription: 14-Pin Thin Shrink Small Outline Package, Body 5 x 4.4 mm, Pitch 0.65 mm; Supplier 1: Digi-Key; Supplier Part Number 1: ADA4851-4YRUZ-RL-ND; Slew Rate: 375V/us; Mounting Technology: Surface Mount; Code_JEDEC: MO-153AB-1; ComponentLink1Description: Manufacturer URL; ComponentLink1URL: http://www.analog.com/en/index.html; ComponentLink2Description: Datasheet; ComponentLink2URL: http://www.analog.com/static/imported-files/data_sheets/ADA4851-1_4851-2_4851-4.pdf; ComponentLink3Description: Package Specification; ComponentLink3URL: http://www.analog.com/static/imported-files/packages/36057385283879153717235186773RU14.pdf
footprint ADI-RU-14_N (SOP, 14-Leads, Body 5x4.4mm, Pitch 0.65mm, IPC Medium Density)
footprint ADI-RU-14_L (SOP, 14-Leads, Body 5x4.4mm, Pitch 0.65mm, IPC High Density)
footprint ADI-RU-14_M (SOP, 14-Leads, Body 5x4.4mm, Pitch 0.65mm, IPC Low Density)
pins on every part: 4 +VS (power), 11 -VS (power)
part A pins: 1 VOUT 1 (out), 2 -IN 1 (in), 3 +IN 1 (in)
part B pins: 5 +IN 2 (in), 6 -IN 2 (in), 7 VOUT 2 (out)
part C pins: 8 VOUT 3 (out), 9 -IN 3 (in), 10 +IN 3 (in)
part D pins: 12 +IN 4 (in), 13 -IN 4 (in), 14 VOUT 4 (out)

## ADA4851-4YRUZ-RL7
designator U?
Quad Channel Low Power Operational Amplifier, 130 MHz BW, 375 V/us SR, Industrial, 14-pin SOP (RU-14), Reel; Generic Part Number: ADA4851-4; Manufacturer: Analog Devices; PartNumber: ADA4851-4YRUZ-RL7; Amplifiers Per Package: 4; Automotive Qualified: Yes; Input Bias Current: 1.8uA; Input Offset Voltage: 600uV; Iq/Amp: 3.2mA; Small Signal Bandwidth: 130MHz; V Span Max: 12V; V Span Min: 2.7V; DatasheetVersion: Rev. J; PackageReference: RU-14; PackageDescription: 14-Pin Thin Shrink Small Outline Package, Body 5 x 4.4 mm, Pitch 0.65 mm; Supplier 1: Digi-Key; Supplier Part Number 1: ADA4851-4YRUZ-RL7TR-ND; Supplier 2: Digi-Key; Supplier Part Number 2: ADA4851-4YRUZ-RL7CT-ND; Supplier 3: Digi-Key; Supplier Part Number 3: ADA4851-4YRUZ-RL7DKR-ND; Supplier 4: Newark; Supplier Part Number 4: 59K0911; Slew Rate: 375V/us; Mounting Technology: Surface Mount; Code_JEDEC: MO-153AB-1; ComponentLink1Description: Manufacturer URL; ComponentLink1URL: http://www.analog.com/en/index.html; ComponentLink2Description: Datasheet; ComponentLink2URL: http://www.analog.com/static/imported-files/data_sheets/ADA4851-1_4851-2_4851-4.pdf; ComponentLink3Description: Package Specification; ComponentLink3URL: http://www.analog.com/static/imported-files/packages/36057385283879153717235186773RU14.pdf
footprint ADI-RU-14_N (SOP, 14-Leads, Body 5x4.4mm, Pitch 0.65mm, IPC Medium Density)
footprint ADI-RU-14_L (SOP, 14-Leads, Body 5x4.4mm, Pitch 0.65mm, IPC High Density)
footprint ADI-RU-14_M (SOP, 14-Leads, Body 5x4.4mm, Pitch 0.65mm, IPC Low Density)
pins on every part: 4 +VS (power), 11 -VS (power)
part A pins: 1 VOUT 1 (out), 2 -IN 1 (in), 3 +IN 1 (in)
part B pins: 5 +IN 2 (in), 6 -IN 2 (in), 7 VOUT 2 (out)
part C pins: 8 VOUT 3 (out), 9 -IN 3 (in), 10 +IN 3 (in)
part D pins: 12 +IN 4 (in), 13 -IN 4 (in), 14 VOUT 4 (out)

## ADA4853-1AKSZ-R2
designator U?
Single Channel Ultra Low Power-Down Current Operational Amplifier, 90MHz BW, 100 V/us SR, Industrial, 6-pin SOT23 (KS-6), Reel; Generic Part Number: ADA4853-1; Manufacturer: Analog Devices; PartNumber: ADA4853-1AKSZ-R2; Amplifiers Per Package: 1; Input Bias Current: 1uA; Input Offset Voltage: 1mV; Iq/Amp: 1.6mA; V Span Max: 5V; V Span Min: 2.65V; DatasheetVersion: Rev. F; PackageVersion: 072809-A; PackageReference: KS-6; PackageDescription: 6-Pin Thin Shrink Small Outline Transistor Package, Body 2 x 1.25 mm, Pitch 0.65 mm; Supplier 1: Digi-Key; Supplier Part Number 1: ADA4853-1AKSZ-R2CT-ND; Supplier 2: Digi-Key; Supplier Part Number 2: ADA4853-1AKSZ-R2DKR-ND; Supplier 3: Farnell; Supplier Part Number 3: 2192170; Supplier 4: Newark; Supplier Part Number 4: 12M7610; Slew Rate: 100V/us; Small Signal Bandwidth: 90MHz; Mounting Technology: Surface Mount; Code_JEDEC: MO-203-AB; ComponentLink1Description: Manufacturer URL; ComponentLink1URL: http://www.analog.com/en/index.html; ComponentLink2Description: Datasheet; ComponentLink2URL: http://www.analog.com/static/imported-files/data_sheets/ADA4853-1_4853-2_4853-3.pdf; ComponentLink3Description: Package Specification; ComponentLink3URL: http://www.analog.com/static/imported-files/packages/PKG_PDF/SC70(KS)/KS_6.pdf; ComponentLink4Description: Reference Circuit; ComponentLink4URL: http://www.analog.com/en/all-operational-amplifiers-op-amps/operational-amplifiers-op-amps/ada4853-1/products/product.html#product-recommendations
footprint ADI-KS-6_N (SOT23, 6-Leads, Body 2x1.25mm, Pitch 0.65mm, IPC Medium Density)
footprint ADI-KS-6_L (SOT23, 6-Leads, Body 2x1.25mm, Pitch 0.65mm, IPC High Density)
footprint ADI-KS-6_M (SOT23, 6-Leads, Body 2x1.25mm, Pitch 0.65mm, IPC Low Density)
pins: 1 VOUT (out), 2 -VS (power), 3 +IN (in), 4 -IN (in), 5 DISABLE (in), 6 +VS (power)

## ADA4853-1AKSZ-R7
designator U?
Single Channel Ultra Low Power-Down Current Operational Amplifier, 90MHz BW, 100 V/us SR, Industrial, 6-pin SOT23 (KS-6), Reel; Generic Part Number: ADA4853-1; Manufacturer: Analog Devices; PartNumber: ADA4853-1AKSZ-R7; Amplifiers Per Package: 1; Input Bias Current: 1uA; Input Offset Voltage: 1mV; Iq/Amp: 1.6mA; V Span Max: 5V; V Span Min: 2.65V; DatasheetVersion: Rev. F; PackageVersion: 072809-A; PackageReference: KS-6; PackageDescription: 6-Pin Thin Shrink Small Outline Transistor Package, Body 2 x 1.25 mm, Pitch 0.65 mm; Supplier 1: Digi-Key; Supplier Part Number 1: ADA4853-1AKSZ-R7TR-ND; Supplier 2: Digi-Key; Supplier Part Number 2: ADA4853-1AKSZ-R7CT-ND; Supplier 3: Digi-Key; Supplier Part Number 3: ADA4853-1AKSZ-R7DKR-ND; Supplier 4: Newark; Supplier Part Number 4: 12M7611; Supplier 5: Newark; Supplier Part Number 5: 67W2626; Slew Rate: 100V/us; Small Signal Bandwidth: 90MHz; Mounting Technology: Surface Mount; Code_JEDEC: MO-203-AB; ComponentLink1Description: Manufacturer URL; ComponentLink1URL: http://www.analog.com/en/index.html; ComponentLink2Description: Datasheet; ComponentLink2URL: http://www.analog.com/static/imported-files/data_sheets/ADA4853-1_4853-2_4853-3.pdf; ComponentLink3Description: Package Specification; ComponentLink3URL: http://www.analog.com/static/imported-files/packages/PKG_PDF/SC70(KS)/KS_6.pdf; ComponentLink4Description: Reference Circuit; ComponentLink4URL: http://www.analog.com/en/all-operational-amplifiers-op-amps/operational-amplifiers-op-amps/ada4853-1/products/product.html#product-recommendations
footprint ADI-KS-6_N (SOT23, 6-Leads, Body 2x1.25mm, Pitch 0.65mm, IPC Medium Density)
footprint ADI-KS-6_L (SOT23, 6-Leads, Body 2x1.25mm, Pitch 0.65mm, IPC High Density)
footprint ADI-KS-6_M (SOT23, 6-Leads, Body 2x1.25mm, Pitch 0.65mm, IPC Low Density)
pins: 1 VOUT (out), 2 -VS (power), 3 +IN (in), 4 -IN (in), 5 DISABLE (in), 6 +VS (power)

## ADA4853-1AKSZ-RL
designator U?
Single Channel Ultra Low Power-Down Current Operational Amplifier, 90MHz BW, 100 V/us SR, Industrial, 6-pin SOT23 (KS-6), Reel; Generic Part Number: ADA4853-1; Manufacturer: Analog Devices; PartNumber: ADA4853-1AKSZ-RL; Amplifiers Per Package: 1; Input Bias Current: 1uA; Input Offset Voltage: 1mV; Iq/Amp: 1.6mA; V Span Max: 5V; V Span Min: 2.65V; DatasheetVersion: Rev. F; PackageVersion: 072809-A; PackageReference: KS-6; PackageDescription: 6-Pin Thin Shrink Small Outline Transistor Package, Body 2 x 1.25 mm, Pitch 0.65 mm; Supplier 1: Digi-Key; Supplier Part Number 1: ADA4853-1AKSZ-RL-ND; Slew Rate: 100V/us; Small Signal Bandwidth: 90MHz; Mounting Technology: Surface Mount; Code_JEDEC: MO-203-AB; ComponentLink1Description: Manufacturer URL; ComponentLink1URL: http://www.analog.com/en/index.html; ComponentLink2Description: Datasheet; ComponentLink2URL: http://www.analog.com/static/imported-files/data_sheets/ADA4853-1_4853-2_4853-3.pdf; ComponentLink3Description: Package Specification; ComponentLink3URL: http://www.analog.com/static/imported-files/packages/PKG_PDF/SC70(KS)/KS_6.pdf; ComponentLink4Description: Reference Circuit; ComponentLink4URL: http://www.analog.com/en/all-operational-amplifiers-op-amps/operational-amplifiers-op-amps/ada4853-1/products/product.html#product-recommendations
footprint ADI-KS-6_N (SOT23, 6-Leads, Body 2x1.25mm, Pitch 0.65mm, IPC Medium Density)
footprint ADI-KS-6_L (SOT23, 6-Leads, Body 2x1.25mm, Pitch 0.65mm, IPC High Density)
footprint ADI-KS-6_M (SOT23, 6-Leads, Body 2x1.25mm, Pitch 0.65mm, IPC Low Density)
pins: 1 VOUT (out), 2 -VS (power), 3 +IN (in), 4 -IN (in), 5 DISABLE (in), 6 +VS (power)

## ADA4853-2YCPZ-R2
designator U?
Double Channel Ultra Low Power-Down Current Operational Amplifier, 100 MHz BW, 120 V/us SR, Industrial, 16-pin QFN (CP-16-3), Reel; Generic Part Number: ADA4853-2; Manufacturer: Analog Devices; PartNumber: ADA4853-2YCPZ-R2; Amplifiers Per Package: 2; Input Bias Current: 1uA; Input Offset Voltage: 2mV; Iq/Amp: 1.6mA; Small Signal Bandwidth: 100MHz; V Span Max: 5V; V Span Min: 2.65V; DatasheetVersion: Rev. F; PackageReference: CP-16-3; PackageDescription: 16-Pin Lead Frame Chip Scale Package, Body 3 x 3 mm, Pitch 0.5 mm; Supplier 1: Digi-Key; Supplier Part Number 1: ADA4853-2YCPZ-R2CT-ND; Supplier 2: Digi-Key; Supplier Part Number 2: ADA4853-2YCPZ-R2DKR-ND; Slew Rate: 120V/us; Mounting Technology: Surface Mount; Code_JEDEC: MO-220-VEED-2; ComponentLink1Description: Manufacturer URL; ComponentLink1URL: http://www.analog.com/en/index.html; ComponentLink2Description: Datasheet; ComponentLink2URL: http://www.analog.com/static/imported-files/data_sheets/ADA4853-1_4853-2_4853-3.pdf; ComponentLink3Description: Package Specification; ComponentLink3URL: http://www.analog.com/static/imported-files/packages/PKG_PDF/LFCSP(CP)/CP_16_3.pdf; ComponentLink4Description: Reference Circuit; ComponentLink4URL: http://www.analog.com/en/all-operational-amplifiers-op-amps/operational-amplifiers-op-amps/ada4853-2/products/product.html#product-recommendations
footprint ADI-CP-16-3_N (QFN, 16-Leads, Body 3x3mm, Pitch 0.5mm, Thermal Pad 1.5x1.5mm, IPC Medium Density)
footprint ADI-CP-16-3_L (QFN, 16-Leads, Body 3x3mm, Pitch 0.5mm, Thermal Pad 1.5x1.5mm, IPC High Density)
footprint ADI-CP-16-3_M (QFN, 16-Leads, Body 3x3mm, Pitch 0.5mm, Thermal Pad 1.5x1.5mm, IPC Low Density)
part A pins: 1 VOUT 1 (out), 2 -IN 1 (in), 3 +IN 1 (in), 14 DISABLE 1 (in)
part B pins: 9 +IN 2 (in), 10 -IN 2 (in), 11 VOUT 2 (out), 13 DISABLE 2 (in)
part C pins: 4 -VS (power), 5 NC, 6 NC, 7 NC, 8 NC, 12 +VS (power), 15 NC, 16 NC, 17 EP (power) "EXPOSED DIE PAD MUST BE CONNECTED TO GND."